# Altium integrated library Tiristor Triac.IntLib: 7 symbols
Pins are listed as number, name and electrical type; pins without a type are passive.

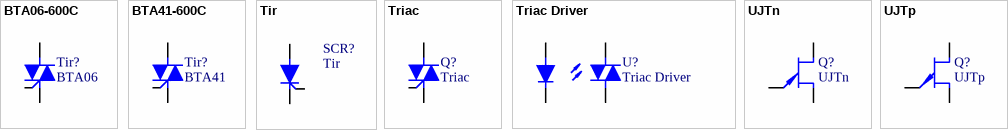
[diagram p0: symbols BTA06-600C to UJTp]

## BTA06-600C
designator Tir?, comment BTA06
6A 600V 25mA; TargetPrice: 0.82
footprint TO220-1A 2.54
pins: 1 A1, 2 A2, 3 G (in)

## BTA41-600C
designator Tir?, comment BTA41
40A 600V 50mA; TargetPrice: 0.82
footprint TO247-h26mm
pins: 1 A1, 2 A2, 3 G (in)

## Tir
designator SCR?
TargetPrice: 2
footprint TO220-1A 2.54
pins: 1 C, 2 A, 3 G

## Triac
designator Q?
TargetPrice: 2
footprint TO220-1A 2.54
pins: 1 A2, 2 A1, 3 G (in)

## Triac Driver
designator U?
TargetPrice: 3
pins: 1 Anode, 2 Catod, 3 Anode 1, 4 Anode2

## UJTn
designator Q?
TargetPrice: 1
footprint TO92C
pins: 1 E, 2 B1, 3 B2

## UJTp
designator Q?
TargetPrice: 1
footprint TO92C
pins: 1 E, 2 B1, 3 B2